# EAGLE library part L9958SB (library L9958SBTR)
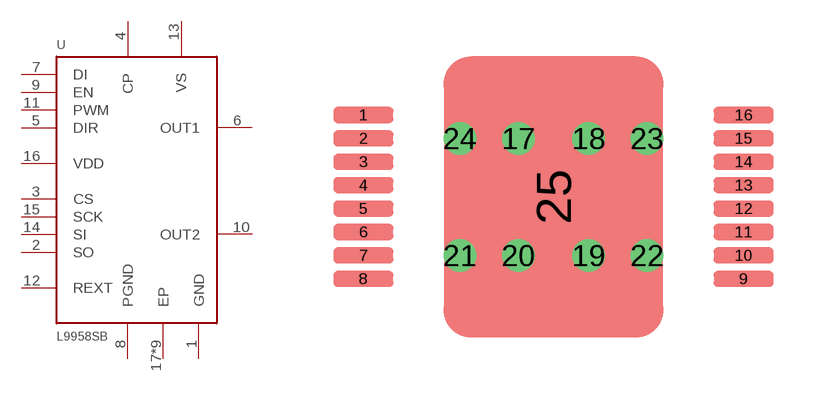
[diagram p0: symbol with the pads of POWERSO-16; footprint POWERSO-16]

Designator prefix U

## L9958SB  [POWERSO-16]
1  GND  pwr
2  SO  out
3  CS  in
4  CP  pas
5  DIR  in
6  OUT1  pas
7  DI  in
8  PGND  pwr
9  EN  in
10  OUT2  pas
11  PWM  in
12  REXT  pas
13  VS  pwr
14  SI  in
15  SCK  in
16  VDD  pwr
17  EP  pas
18  EP  pas
19  EP  pas
20  EP  pas
21  EP  pas
22  EP  pas
23  EP  pas
24  EP  pas
25  EP  pas

## Footprint POWERSO-16 (pad centres in mm)
smd 2.05 x 0.55: 1 -6.5,2.8; 2 -6.5,2; 3 -6.5,1.2; 4 -6.5,0.4; 5 -6.5,-0.4; 6 -6.5,-1.2; 7 -6.5,-2; 8 -6.5,-2.8; 9 6.5,-2.8; 10 6.5,-2; 11 6.5,-1.2; 12 6.5,-0.4; 13 6.5,0.4; 14 6.5,1.2; 15 6.5,2; 16 6.5,2.8
drill 0.6: 17 -1.2,2; 18 1.2,2; 19 1.2,-2; 20 -1.2,-2; 21 -3.2,-2; 22 3.2,-2; 23 3.2,2; 24 -3.2,2
smd 7.5 x 9.6: 25 0,0